# Altium footprint library Crystals.PcbLib: 1 footprints
Each footprint in its own frame and in the unit in brackets; x right, y up, seen from the top. Pads: shape width x height; smd on the part's side, far side on the other; paste and mask are expansions set on the pad; w line width, h text height; cw(c..) or ccw(c..) is an arc to the next point about the centre after c.
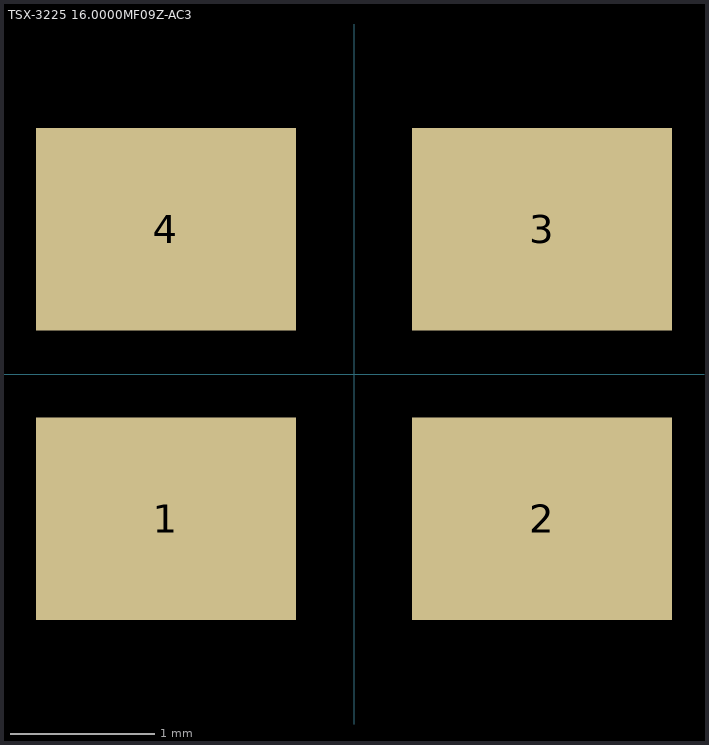
[diagram p0: the footprint, top view; thin cyan lines are the x and y axes]

## TSX-3225 16.0000MF09Z-AC3 [mm]
pads (4):
  rect 1.8x1.4 smd: 1(-1.3,-1) 2(1.3,-1) 3(1.3,1) 4(-1.3,1)
3D body "User Library-tsx-3225.step": height 0.6, standoff 0, extent -1.6,-1.25 1.6,1.25